# EAGLE library part 692121030100 (library USB_Wuerth_Elektronik_eiCan_Communication_Connectors_STENCIL)
WR-COM USB 3.0 HORIZONTAL TYPE A
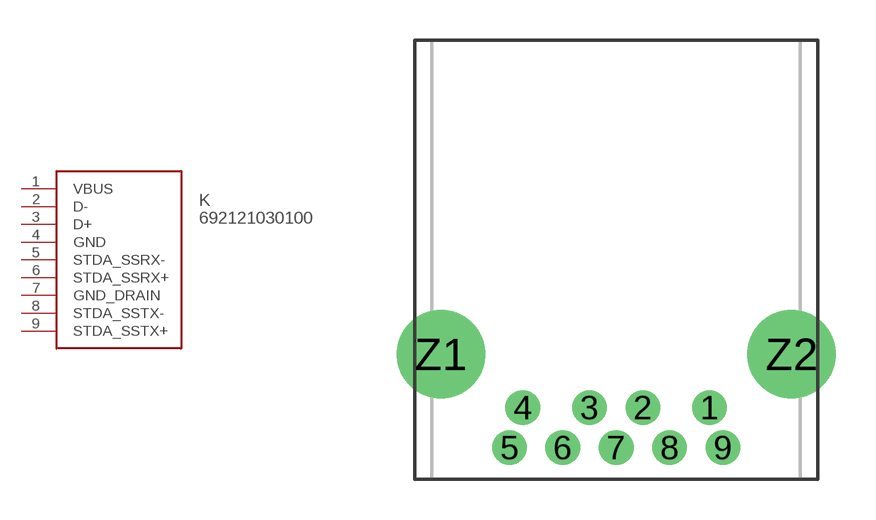
[diagram p17: symbol with the pads of 692121030100; footprint 692121030100]

Designator prefix K

## 692121030100  [692121030100]
1  VBUS
2  D-
3  D+
4  GND
5  STDA_SSRX-
6  STDA_SSRX+
7  GND_DRAIN
8  STDA_SSTX-
9  STDA_SSTX+

## Footprint 692121030100 (pad centres in mm)
WR-COM USB 3.0 HORIZONTAL TYPE A
drill 0.7 pad 1.3: 1 3.5,1.5; 2 1,1.5; 3 -1,1.5; 4 -3.5,1.5; 5 -4,0; 6 -2,0; 7 0,0; 8 2,0; 9 4,0
drill 2.3 pad 3.3: Z1 -6.57,3.5; Z2 6.57,3.5